# EAGLE library part 54 (library Erni-MicroStack)
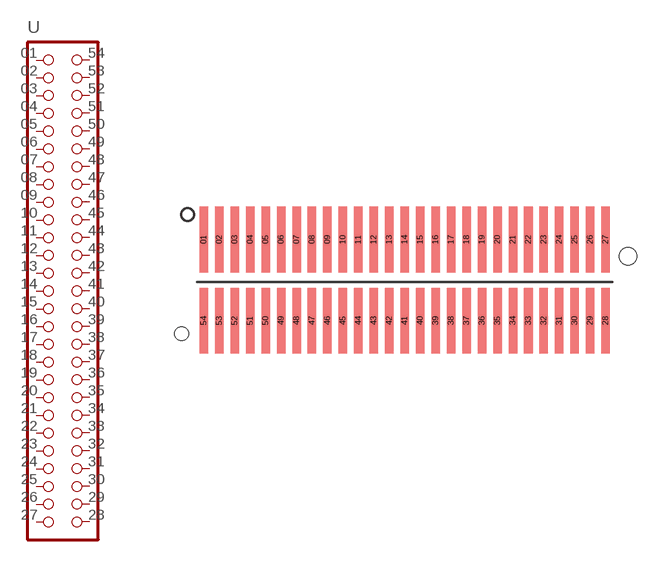
[diagram p6: symbol with the pads of 27X2; footprint 27X2]

Designator prefix -

## 54  [27X2]
01  1
02  2
03  3  pas
04  4  pas
05  5  pas
06  6  pas
07  7  pas
08  8  pas
09  9  pas
10  10  pas
11  11  pas
12  12  pas
13  13  pas
14  14  pas
15  15  pas
16  16  pas
17  17  pas
18  18  pas
19  19  pas
20  20  pas
21  21  pas
22  22  pas
23  23  pas
24  24  pas
25  25  pas
26  26  pas
27  27  pas
28  28  pas
29  29  pas
30  30  pas
31  31  pas
32  32  pas
33  33  pas
34  34  pas
35  35  pas
36  36  pas
37  37  pas
38  38  pas
39  39  pas
40  40  pas
41  41  pas
42  42  pas
43  43  pas
44  44  pas
45  45  pas
46  46  pas
47  47  pas
48  48  pas
49  49  pas
50  50  pas
51  51  pas
52  52  pas
53  53  pas
54  54  pas

## Footprint 27X2 (pad centres in mm)
smd 0.44 x 3.4: 01 -10.4,2.2; 02 -9.6,2.2; 03 -8.8,2.2; 04 -8,2.2; 05 -7.2,2.2; 06 -6.4,2.2; 07 -5.6,2.2; 08 -4.8,2.2; 09 -4,2.2; 10 -3.2,2.2; 11 -2.4,2.2; 12 -1.6,2.2; 13 -0.8,2.2; 14 0,2.2; 15 0.8,2.2; 16 1.6,2.2; 17 2.4,2.2; 18 3.2,2.2; 19 4,2.2; 20 4.8,2.2; 21 5.6,2.2; 22 6.4,2.2; 23 7.2,2.2; 24 8,2.2; 25 8.8,2.2; 26 9.6,2.2; 27 10.4,2.2; 28 10.4,-2; 29 9.6,-2; 30 8.8,-2; 31 8,-2; 32 7.2,-2; 33 6.4,-2; 34 5.6,-2; 35 4.8,-2; 36 4,-2; 37 3.2,-2; 38 2.4,-2; 39 1.6,-2; 40 0.8,-2; 41 0,-2; 42 -0.8,-2; 43 -1.6,-2; 44 -2.4,-2; 45 -3.2,-2; 46 -4,-2; 47 -4.8,-2; 48 -5.6,-2; 49 -6.4,-2; 50 -7.2,-2; 51 -8,-2; 52 -8.8,-2; 53 -9.6,-2; 54 -10.4,-2
hole 0.7 at -11.55,-2.67
hole 0.9 at 11.55,1.33